# Altium footprint library MB0011A.01.A.2.PcbLib: 1 footprints
Each footprint in its own frame and in the unit in brackets; x right, y up, seen from the top. Pads: shape width x height; smd on the part's side, far side on the other; paste and mask are expansions set on the pad; w line width, h text height; cw(c..) or ccw(c..) is an arc to the next point about the centre after c.
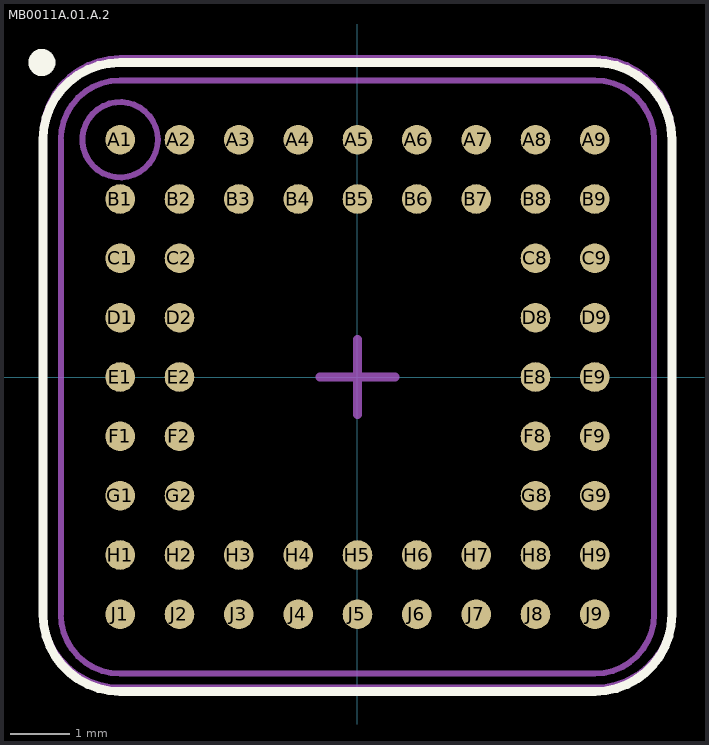
[diagram p0: the footprint, top view; thin cyan lines are the x and y axes]

## MB0011A.01.A.2 [mm] "Module Component - 1mm Pitch, 88-Pin, 14x14mm"
height 1.2
pads (56):
  round 0.5 smd: A1(-4,4) A2(-3,4) A3(-2,4) A4(-1,4) A5(0,4) A6(1,4) A7(2,4) A8(3,4) A9(4,4) B1(-4,3) B2(-3,3) B3(-2,3) B4(-1,3) B5(0,3) B6(1,3) B7(2,3) B8(3,3) B9(4,3) C1(-4,2) C2(-3,2) C8(3,2) C9(4,2) D1(-4,1) D2(-3,1) D8(3,1) D9(4,1) E1(-4,0) E2(-3,0) E8(3,0) E9(4,0) F1(-4,-1) F2(-3,-1) F8(3,-1) F9(4,-1) G1(-4,-2) G2(-3,-2) G8(3,-2) G9(4,-2) H1(-4,-3) H2(-3,-3) H3(-2,-3) H4(-1,-3) H5(0,-3) H6(1,-3) H7(2,-3) H8(3,-3) H9(4,-3) J1(-4,-4) J2(-3,-4) J3(-2,-4) J4(-1,-4) J5(0,-4) J6(1,-4) J7(2,-4) J8(3,-4) J9(4,-4)
Top Overlay:
  circle w0.254: c-5.319,5.3 r0.102
  lines w0.15: -5.3,-4 ccw(c-4,-4) -4,-5.3 4,-5.3 ccw(c4,-4) 5.3,-4 5.3,4 ccw(c4,4) 4,5.3 -4,5.3 ccw(c-4,4) -5.3,4 -5.3,-4
Mechanical 13:
  circle w0.1: c-4,4 r0.635
  lines w0.1: -5,-4 ccw(c-4,-4) -4,-5 4,-5 ccw(c4,-4) 5,-4 5,4 ccw(c4,4) 4,5 -4,5 ccw(c-4,4) -5,4 -5,-4
Mechanical 15:
  lines w0.1: -5.304,-3.93 ccw(c-4,-3.93) -4,-5.234 4,-5.234 ccw(c4,-3.93) 5.304,-3.93 5.304,4.07 ccw(c4,4.07) 4,5.374 -4,5.374 ccw(c-4,4.07) -5.304,4.07 -5.304,-3.93
  lines w0.152: -0.635,0 0.635,0 ; 0,-0.635 0,0.635
3D body: height 3.81, standoff 0, extent -5.3,-5.3 5.3,5.3